# Altium schematic symbol library LTC2325HUKG-16PBF.SchLib: 2 symbols
Pins are listed as number, name and electrical type; pins without a type are passive.

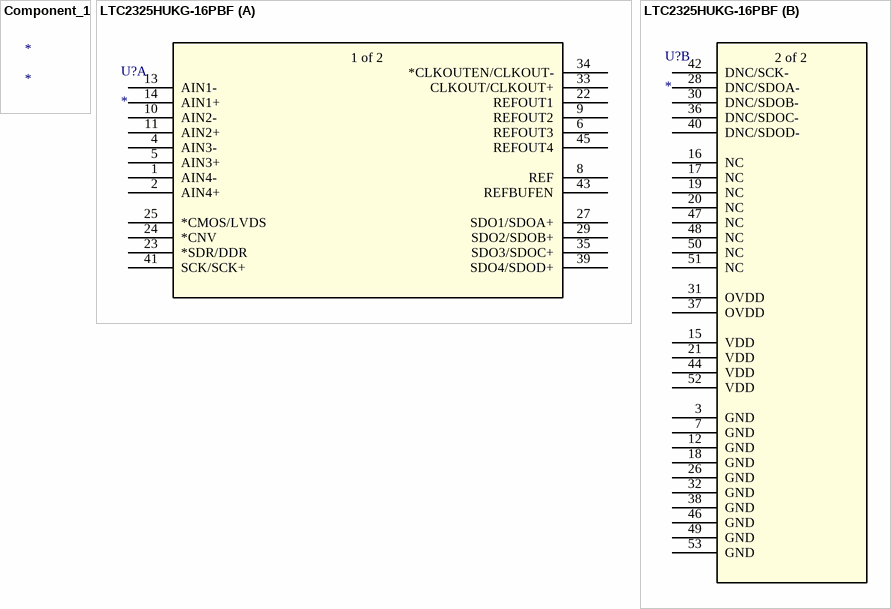
[diagram p0: symbols Component_1 to LTC2325HUKG-16PBF]

## Component_1
designator *

## LTC2325HUKG-16PBF
designator U?
No Description Available; Mfr_Name: Analog Devices Inc; RefDes: RefDes; Type: Type
footprint UKG_52A_ADI
part A pins: 1 AIN4-, 2 AIN4+, 4 AIN3-, 5 AIN3+, 6 REFOUT3, 8 REF, 9 REFOUT2, 10 AIN2-, 11 AIN2+, 13 AIN1-, 14 AIN1+, 22 REFOUT1, 23 *SDR/DDR, 24 *CNV, 25 *CMOS/LVDS, 27 SDO1/SDOA+, 29 SDO2/SDOB+, 33 CLKOUT/CLKOUT+, 34 *CLKOUTEN/CLKOUT-, 35 SDO3/SDOC+, 39 SDO4/SDOD+, 41 SCK/SCK+, 43 REFBUFEN, 45 REFOUT4
part B pins: 3 GND, 7 GND, 12 GND, 15 VDD, 16 NC, 17 NC, 18 GND, 19 NC, 20 NC, 21 VDD, 26 GND, 28 DNC/SDOA-, 30 DNC/SDOB-, 31 OVDD, 32 GND, 36 DNC/SDOC-, 37 OVDD, 38 GND, 40 DNC/SDOD-, 42 DNC/SCK-, 44 VDD, 46 GND, 47 NC, 48 NC, 49 GND, 50 NC, 51 NC, 52 VDD, 53 GND
part A text: 1 of 2
part B text: 2 of 2